# Altium footprint library S6125-M2-0.5A.PcbLib: 1 footprints
Each footprint in its own frame and in the unit in brackets; x right, y up, seen from the top. Pads: shape width x height; smd on the part's side, far side on the other; paste and mask are expansions set on the pad; w line width, h text height; cw(c..) or ccw(c..) is an arc to the next point about the centre after c.
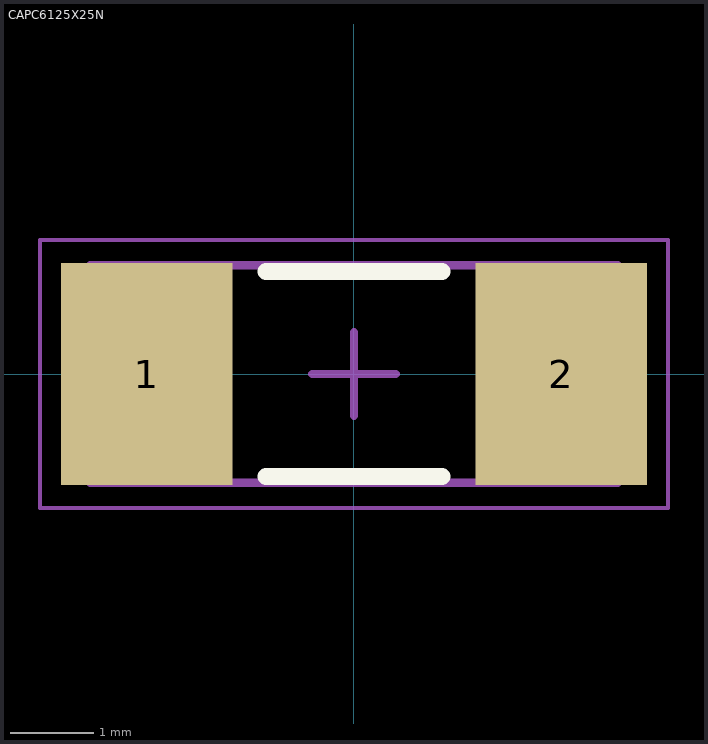
[diagram p0: the footprint, top view; thin cyan lines are the x and y axes]

## CAPC6125X25N [mm] "Chip Capacitor, 2-Leads, Body 6.10x2.50mm, IPC Medium Density"
height 2.5
pads (2):
  rect 2.05x2.65 smd: 1(-2.475,0) 2(2.475,0)
Top Overlay:
  lines w0.2: -1.05,-1.225 1.05,-1.225 ; -1.05,1.225 1.05,1.225
Mechanical 13:
  lines w0.1: -3.15,-1.3 3.15,-1.3 3.15,1.3 -3.15,1.3 -3.15,-1.3
Mechanical 15:
  lines w0.05: -3.75,-1.6 3.75,-1.6 3.75,1.6 -3.75,1.6 -3.75,-1.6
  lines w0.1: -0.5,0 0.5,0 ; 0,-0.5 0,0.5
3D body: height 2.5, standoff 0, extent 1.75,-1.3 3.15,1.3
3D body: height 2.5, standoff 0, extent -3.15,-1.3 -1.75,1.3
3D body: height 2.5, standoff 0, extent -1.75,-1.3 1.75,1.3